# Altium footprint library PTN Connectors Footprint.PcbLib: 6 footprints
Each footprint in its own frame and in the unit in brackets; x right, y up, seen from the top. Pads: shape width x height; smd on the part's side, far side on the other; paste and mask are expansions set on the pad; w line width, h text height; cw(c..) or ccw(c..) is an arc to the next point about the centre after c.
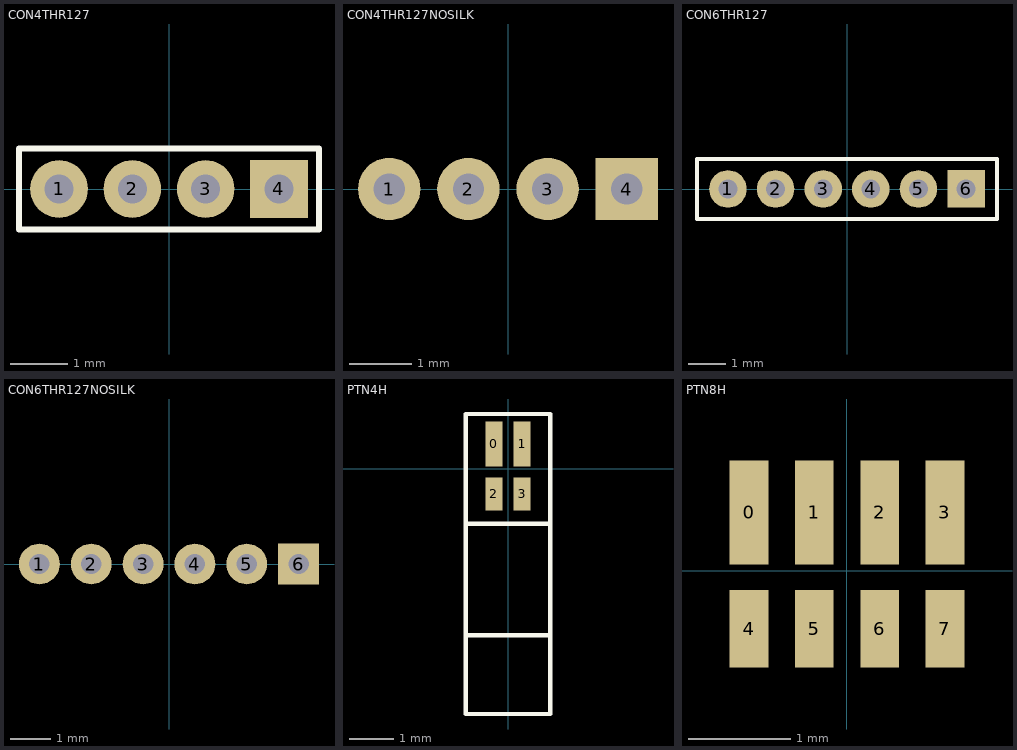
[diagram p0: the footprints below, top view; thin cyan lines are the x and y axes]

## CON4THR127 [mm] "Connector, Through Hole, 1.27mm - Metric Units"
pads (4):
  round 1 hole 0.5: 1(-1.905,0) 2(-0.635,0) 3(0.635,0)
  rect 1x1 hole 0.5: 4(1.905,0)
Top Overlay:
  lines w0.1: -2.6,-0.7 -2.6,0.7 -1.255,0.7 1.095,0.7 2.6,0.7 2.6,0.08 2.6,-0.28 2.6,-0.7 -2.6,-0.7

## CON4THR127NOSILK [mm] "Connector, Through Hole, 1.27mm - Metric Units"
pads (4):
  round 1 hole 0.5: 1(-1.905,0) 2(-0.635,0) 3(0.635,0)
  rect 1x1 hole 0.5: 4(1.905,0)

## CON6THR127 [mm] "Connector, Through Hole, 1.27mm - Metric Units"
pads (6):
  round 1 hole 0.5: 1(-3.175,0) 2(-1.905,0) 3(-0.635,0) 4(0.635,0) 5(1.905,0)
  rect 1x1 hole 0.5: 6(3.175,0)
Top Overlay:
  lines w0.1: -4,-0.8 -4,0.8 4,0.8 4,-0.8 -4,-0.8

## CON6THR127NOSILK [mm] "Connector, Through Hole, 1.27mm - Metric Units"
pads (6):
  round 1 hole 0.5: 1(-3.175,0) 2(-1.905,0) 3(-0.635,0) 4(0.635,0) 5(1.905,0)
  rect 1x1 hole 0.5: 6(3.175,0)

## PTN4H [mm] "Omnetics Connector, PZN-04-AA - Metric Units"
pads (4):
  rect 0.38x1.02 smd: 0(-0.32,0.57) 1(0.32,0.57)
  rect 0.38x0.76 smd: 2(-0.32,-0.57) 3(0.32,-0.57)
Top Overlay:
  lines w0.1: -0.96,-3.79 0.96,-3.79 ; 0.94,1.25 -0.02,1.25 -0.96,1.25 -0.96,-1.25 ; 0.96,1.25 0.96,-1.25 ; -0.96,-1.25 0.96,-1.25 ; -0.96,-1.25 -0.96,-5.58 0.96,-5.58 0.96,-1.25

## PTN8H [mm] "Omnetics Connector, PZN-08-AA - Metric Units"
pads (8):
  rect 0.38x1.02 smd: 0(-0.96,0.57) 1(-0.32,0.57) 2(0.32,0.57) 3(0.96,0.57)
  rect 0.38x0.76 smd: 4(-0.96,-0.57) 5(-0.32,-0.57) 6(0.32,-0.57) 7(0.96,-0.57)